# Altium schematic symbol library Schematics.SchLib: 88 symbols
Pins are listed as number, name and electrical type; pins without a type are passive.

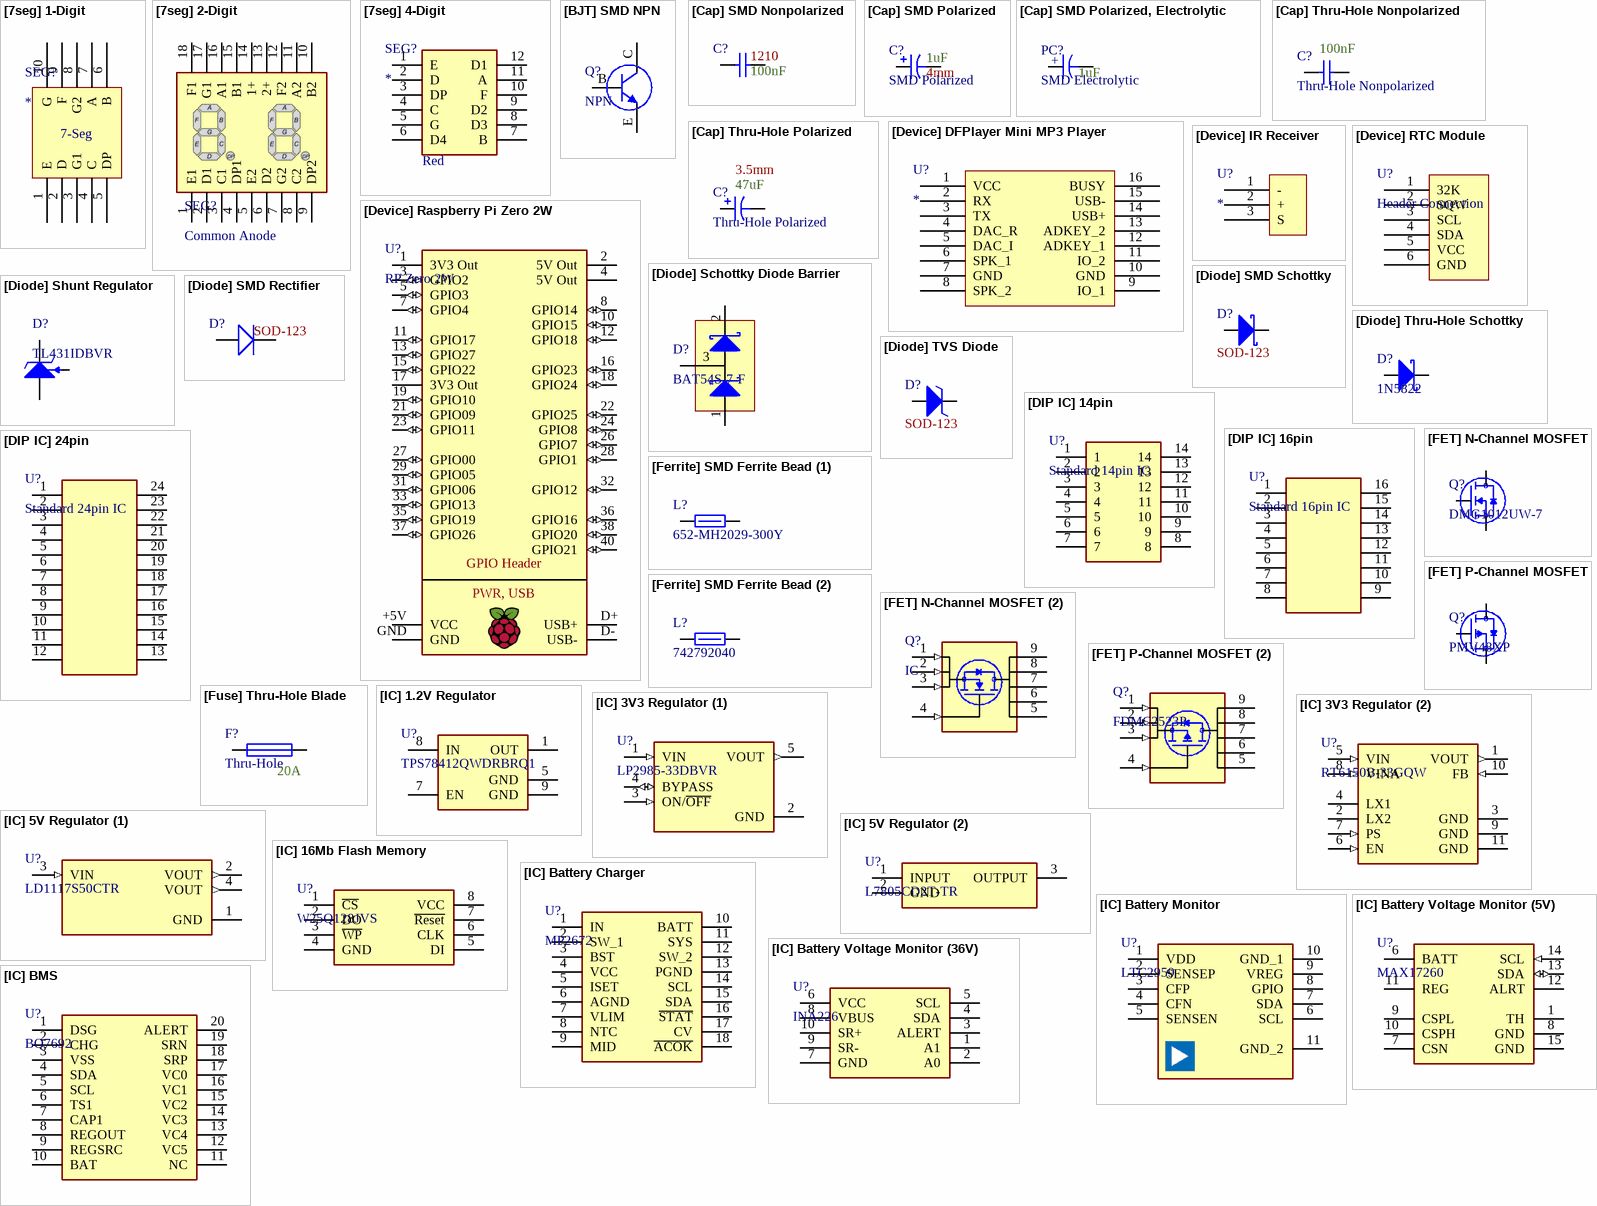
[diagram p0: symbols [7seg] 1-Digit to [IC] BMS]

## [7seg] 1-Digit
designator SEG?
footprint [7Seg] 1 Digit
pins: 1 E (power), 2 D (power), 3 G1 (power), 4 C (power), 5 DP (power), 6 B (power), 7 A (power), 8 G2 (power), 9 F (power), 10 G (power)
text: 7-Seg

## [7seg] 2-Digit
designator SEG?, comment Common Anode
Color: *; Mouser Part #: *
footprint [7seg] 2-Digit
pins: 1 E1, 2 D1, 3 C1, 4 DP1, 5 E2, 6 D2, 7 G2, 8 C2, 9 DP2, 10 B2, 11 A2, 12 F2, 13 2+, 14 1+, 15 B1, 16 A1, 17 G1, 18 F1

## [7seg] 4-Digit
designator SEG?  Color: Red
Mouser Part #: 474-COM-11405
footprint [7seg] 4-Digit
pins: 1 E (power), 2 D (power), 3 DP (power), 4 C (power), 5 G (power), 6 D4 (power), 7 B (power), 8 D3 (power), 9 D2 (power), 10 F (power), 11 A (power), 12 D1 (power)

## [BJT] SMD NPN
designator Q?, comment NPN
footprint [BJT] NPN SMD SOT-89-3
pins: B, C, E

## [Cap] SMD Nonpolarized
designator C?, comment Size Package: 1210  Capacitance: 100nF  (hidden comment: SMD Nonpolarized)
JLC Part #: *; Mouser Part #: *
footprint [Cap] SMD 0805
footprint [Cap] SMD 1206
footprint [Cap] SMD 1210
pins: 1, 2

## [Cap] SMD Polarized
designator C?, comment SMD Polarized  Capacitance: 1uF  Diameter: 4mm
JLC Part #: *; Mouser Part #: *
footprint [Cap] SMD Polarized, 4mm
footprint [Cap] SMD Polarized, 6.3mm
footprint [Cap] SMD Polarized, 10mm
pins: 1, 2

## [Cap] SMD Polarized, Electrolytic
designator PC?, comment SMD Electrolytic  Capacitance: 1uF
footprint [Cap] SMD Polarized, Electrolytic
pins: 1, 2
text: +

## [Cap] Thru-Hole Nonpolarized
designator C?, comment Thru-Hole Nonpolarized  Capacitance: 100nF
JLC Part #: *; Mouser Part #: *
footprint [Cap] Thru-Hole Nonpolarized
pins: 1, 2

## [Cap] Thru-Hole Polarized
designator C?, comment Thru-Hole Polarized  Pin Spacing: 3.5mm  Capacitance: 47uF
JLC Part #: *; Mouser Part #: *
footprint [Cap] Thru-Hole Polarized 3.5mm (3.5mm)
footprint [Cap] Thru-Hole Polarized 5mm (5mm)
pins: 1, 2

## [Device] DFPlayer Mini MP3 Player
designator U?
footprint [Device] DFPlayer Mini MP3 Player
pins: 1 VCC (power), 2 RX (power), 3 TX (power), 4 DAC_R (power), 5 DAC_I (power), 6 SPK_1 (power), 7 GND (power), 8 SPK_2 (power), 9 IO_1 (power), 10 GND (power), 11 IO_2 (power), 12 ADKEY_1 (power), 13 ADKEY_2 (power), 14 USB+ (power), 15 USB- (power), 16 BUSY (power)

## [Device] IR Receiver
designator U?
footprint [Device] IR Receiver
pins: 1 - (power), 2 + (power), 3 S (power)

## [Device] Raspberry Pi Zero 2W
designator U?, comment RP Zero 2W
footprint [Device] Raspberry Pi Zero 2W
pins: 1 3V3 Out (power), 2 5V Out (power), 3 GPIO2 (io), 4 5V Out (power), 5 GPIO3 (io), 7 GPIO4 (io), 8 GPIO14 (io), 10 GPIO15 (io), 11 GPIO17 (io), 12 GPIO18 (io), 13 GPIO27 (io), 15 GPIO22 (io), 16 GPIO23 (io), 17 3V3 Out (power), 18 GPIO24 (io), 19 GPIO10 (io), 21 GPIO09 (io), 22 GPIO25 (io), 23 GPIO11 (io), 24 GPIO8 (io), 26 GPIO7 (io), 27 GPIO00 (io), 28 GPIO1 (io), 29 GPIO05 (io), 31 GPIO06 (io), 32 GPIO12 (io), 33 GPIO13 (io), 35 GPIO19 (io), 36 GPIO16 (io), 37 GPIO26 (io), 38 GPIO20 (io), 40 GPIO21 (io), +5V VCC (power), D+ USB+ (power), D- USB- (power), GND (power)
text: GPIO Header; PWR, USB

## [Device] RTC Module
designator U?, comment Header Connection
footprint [Device] RTC Module Header Connection
pins: 1 32K (power), 2 SQW (power), 3 SCL (power), 4 SDA (power), 5 VCC (power), 6 GND (power)

## [Diode] Schottky Diode Barrier
designator D?, comment BAT54S-7-F
footprint [Diode] Schottky Diode Barrier
pins: 1, 2, 3 (power)

## [Diode] Shunt Regulator
designator D?, comment TL431IDBVR
footprint [Diode] Shunt Regulator (TL431IDBVR)
pins: 3 Cathode, 4 Vref, 5 Anode

## [Diode] SMD Rectifier
designator D?, comment Size Package: SOD-123  (hidden comment: Rectifier)
Generic; Mouser Part #: *
footprint [Diode] SMD 1206
footprint [Diode] SMD SOD-323-2
footprint [Diode] SMD SOD-123
footprint [Diode] SMD DO-214AC
footprint [Diode] SMD M7
footprint [Diode] SMD DO-214AA
footprint [Diode] SMD SOD-123W (SMD SOD-123W)
pins: 1 Cathode (power), 2 Anode (power)

## [Diode] SMD Schottky
designator D?, comment Size Package: SOD-123  (hidden comment: Schottky)
Generic
footprint [Diode] SMD 1206
footprint [Diode] SMD DO-214AA
footprint [Diode] SMD DO-214AC
footprint [Diode] SMD M7
footprint [Diode] SMD SOD-123
footprint [Diode] SMD SOD-123W (SMD SOD-123W)
footprint [Diode] SMD SOD-323-2
pins: 1 K (power), 2 A (power)

## [Diode] Thru-Hole Schottky
designator D?, comment 1N5822
Mouser Part #: 511-1N5822
footprint [Diode] Thru-Hole Schottky (1N5822)
pins: 1 K, 2 A

## [Diode] TVS Diode
designator D?, comment Size Package: SOD-123  (hidden comment: TVS/Zener)
Generic
footprint [Diode] SMD DO-214AA
footprint [Diode] SMD 1206
footprint [Diode] SMD DO-214AC
footprint [Diode] SMD M7
footprint [Diode] SMD SOD-123
footprint [Diode] SMD SOD-123W (SMD SOD-123W)
footprint [Diode] SMD SOD-323-2
pins: 1 Cathode, 2 Anode

## [DIP IC] 14pin
designator U?, comment Standard 14pin IC
Mouser Part #: *
footprint [DIP IC] 14pin, IC (Bare IC (no socket))
footprint [DIP IC] 14pin, Socket (IC Socket)
pins: 1, 2, 3, 4, 5, 6, 7, 8, 9, 10, 11, 12, 13, 14

## [DIP IC] 16pin
designator U?, comment Standard 16pin IC
Mouser Part #: *
footprint [DIP IC] 16pin, Socket (IC Socket)
footprint [DIP IC] 16pin, IC (Bare IC (no socket))
pins: 1, 2, 3, 4, 5, 6, 7, 8, 9, 10, 11, 12, 13, 14, 15, 16

## [DIP IC] 24pin
designator U?, comment Standard 24pin IC
Mouser Part #: *
footprint [DIP IC] 24pin, IC
footprint [DIP IC] 24pin, Socket
pins: 1 (power), 2 (power), 3 (power), 4 (power), 5 (power), 6 (power), 7 (power), 8 (power), 9 (power), 10 (power), 11 (power), 12 (power), 13 (power), 14 (power), 15 (power), 16 (power), 17 (power), 18 (power), 19 (power), 20 (power), 21 (power), 22 (power), 23 (power), 24 (power)

## [Ferrite] SMD Ferrite Bead (1)
designator L?, comment 652-MH2029-300Y
Res @ Freq: 30 @ 100MHz; Size Package: 0805
footprint [Ferrite] SMD Bead 0805 (1)
pins: 1, 2

## [Ferrite] SMD Ferrite Bead (2)
designator L?, comment 742792040
Mouser Part #: 710-742792040
footprint [Ferrite] SMD Bead 0805 (2) (742792040)
pins: 1, 2

## [FET] N-Channel MOSFET
designator Q?, comment DMG1012UW-7
footprint [FET] N-Channel Mosfet (DMG1012UW-7)
pins: 1 Gate, 2 Source, 3 Drain

## [FET] N-Channel MOSFET (2)
designator Q?, comment IC
Mouser Part #: 726-BSC057N08NS3G
footprint [FET] N-Channel MOSFET BSC057N08NS3 G (BSC057N08NS3 G)
footprint [FET] N-Channel MOSFET FDMS86250 (FDMS86250)
pins: 1 Source (in), 2 Source (in), 3 Source (in), 4 Gate (in), 5 Drain, 6 Drain, 7 Drain, 8 Drain, 9 Drain

## [FET] P-Channel MOSFET
designator Q?, comment PMV48XP
JLC Part #: C2959854
footprint [FET] P-Channel Mosfet (PMV48XP)
pins: 1 G, 2 S, 3 D

## [FET] P-Channel MOSFET (2)
designator Q?, comment FDMC2523P
footprint [FET] P-Channel MOSFET (2)
pins: 1 Source (in), 2 Source (in), 3 Source (in), 4 Gate (in), 5 Drain, 6 Drain, 7 Drain, 8 Drain, 9 Drain

## [Fuse] Thru-Hole Blade
designator F?, comment Thru-Hole  Capacity: 20A
Mouser Part #: *
footprint [Fuse] Blade (1)
footprint [Fuse] Blade (2)
pins: 1, 2

## [IC] 1.2V Regulator
designator U?, comment TPS78412QWDRBRQ1
footprint [IC] 1.2V Regulator
pins: 1 OUT, 5 GND, 7 EN, 8 IN, 9 GND

## [IC] 3V3 Regulator (1)
designator U?, comment LP2985-33DBVR
JLC Part #: C95414; Mouser Part #: 595-LP2985-33DBVR
footprint [IC] 3V3 Regulator (1) (Part #: LP2985-33DBVR)
pins: 1 VIN (in), 2 GND (power), 3 ON/~{OFF} (in), 4 BYPASS (io), 5 VOUT (out)

## [IC] 3V3 Regulator (2)
designator U?, comment RT6150B-33GQW
footprint [IC] 3V3 Regulator (2) (RT6150B-33GQW)
pins: 1 VOUT (out), 2 LX2 (power), 3 GND (power), 4 LX1 (power), 5 VIN (in), 6 EN (in), 7 PS (in), 8 VINA (in), 9 GND (power), 10 FB (in), 11 GND (power)

## [IC] 5V Regulator (1)
designator U?, comment LD1117S50CTR
JLC Part #: C81157
footprint [IC] 5V Regulator (1) (LD1117S50CTR)
pins: 1 GND (power), 2 VOUT (out), 3 VIN (in), 4 VOUT (out)

## [IC] 5V Regulator (2)
designator U?, comment L7805CD2T-TR
Mouser Part #: 511-L7805CD2T-TR
footprint [IC] 5V Regulator (2) (511-L7805CD2T-TR)
pins: 1 INPUT, 2 GND, 3 OUTPUT

## [IC] 16Mb Flash Memory
designator U?, comment W25Q128JVS
W25Q128JVSIQ TR
footprint [IC] 16Mb Flash Memory (W25Q128JVSIQ TR)
pins: 1 ~{CS}, 2 DO, 3 ~{WP}, 4 GND, 5 DI, 6 CLK, 7 ~{Reset}, 8 VCC

## [IC] Battery Charger
designator U?, comment MP2672
MP2672GD
footprint [IC] Battery Charger (MP2672GD)
pins: 1 IN, 2 SW_1, 3 BST, 4 VCC, 5 ISET, 6 AGND, 7 VLIM, 8 NTC, 9 MID, 10 BATT, 11 SYS, 12 SW_2, 13 PGND, 14 SCL, 15 SDA, 16 ~{STAT}, 17 CV, 18 ~{ACOK}

## [IC] Battery Monitor
designator U?, comment LTC2959
Mouser Part #: 584-LTC2959IDDBTRMPB
footprint [IC] Battery Monitor (LTC2959)
pins: 1 VDD, 2 SENSEP, 3 CFP, 4 CFN, 5 SENSEN, 6 SCL, 7 SDA, 8 GPIO, 9 VREG, 10 GND_1, 11 GND_2

## [IC] Battery Voltage Monitor (5V)
designator U?, comment MAX17260
MAX17260SETD+
footprint [IC] Battery Voltage Monitor (5V) (MAX17260SETD+)
pins: 1 TH, 6 BATT (power), 7 CSN, 8 GND, 9 CSPL, 10 CSPH, 11 REG (power), 12 ALRT, 13 SDA (io), 14 SCL (in), 15 GND

## [IC] Battery Voltage Monitor (36V)
designator U?, comment INA226
INA226AIDGST
footprint [IC] Battery Voltage Monitor (36V) (INA226AIDGST)
pins: 1 A1, 2 A0, 3 ALERT, 4 SDA, 5 SCL, 6 VCC, 7 GND, 8 VBUS, 9 SR-, 10 SR+

## [IC] BMS
designator U?, comment BQ7692
footprint [IC] BMS (BQ7692)
pins: 1 DSG, 2 CHG, 3 VSS, 4 SDA, 5 SCL, 6 TS1, 7 CAP1, 8 REGOUT, 9 REGSRC, 10 BAT, 11 NC, 12 VC5, 13 VC4, 14 VC3, 15 VC2, 16 VC1, 17 VC0, 18 SRP, 19 SRN, 20 ALERT

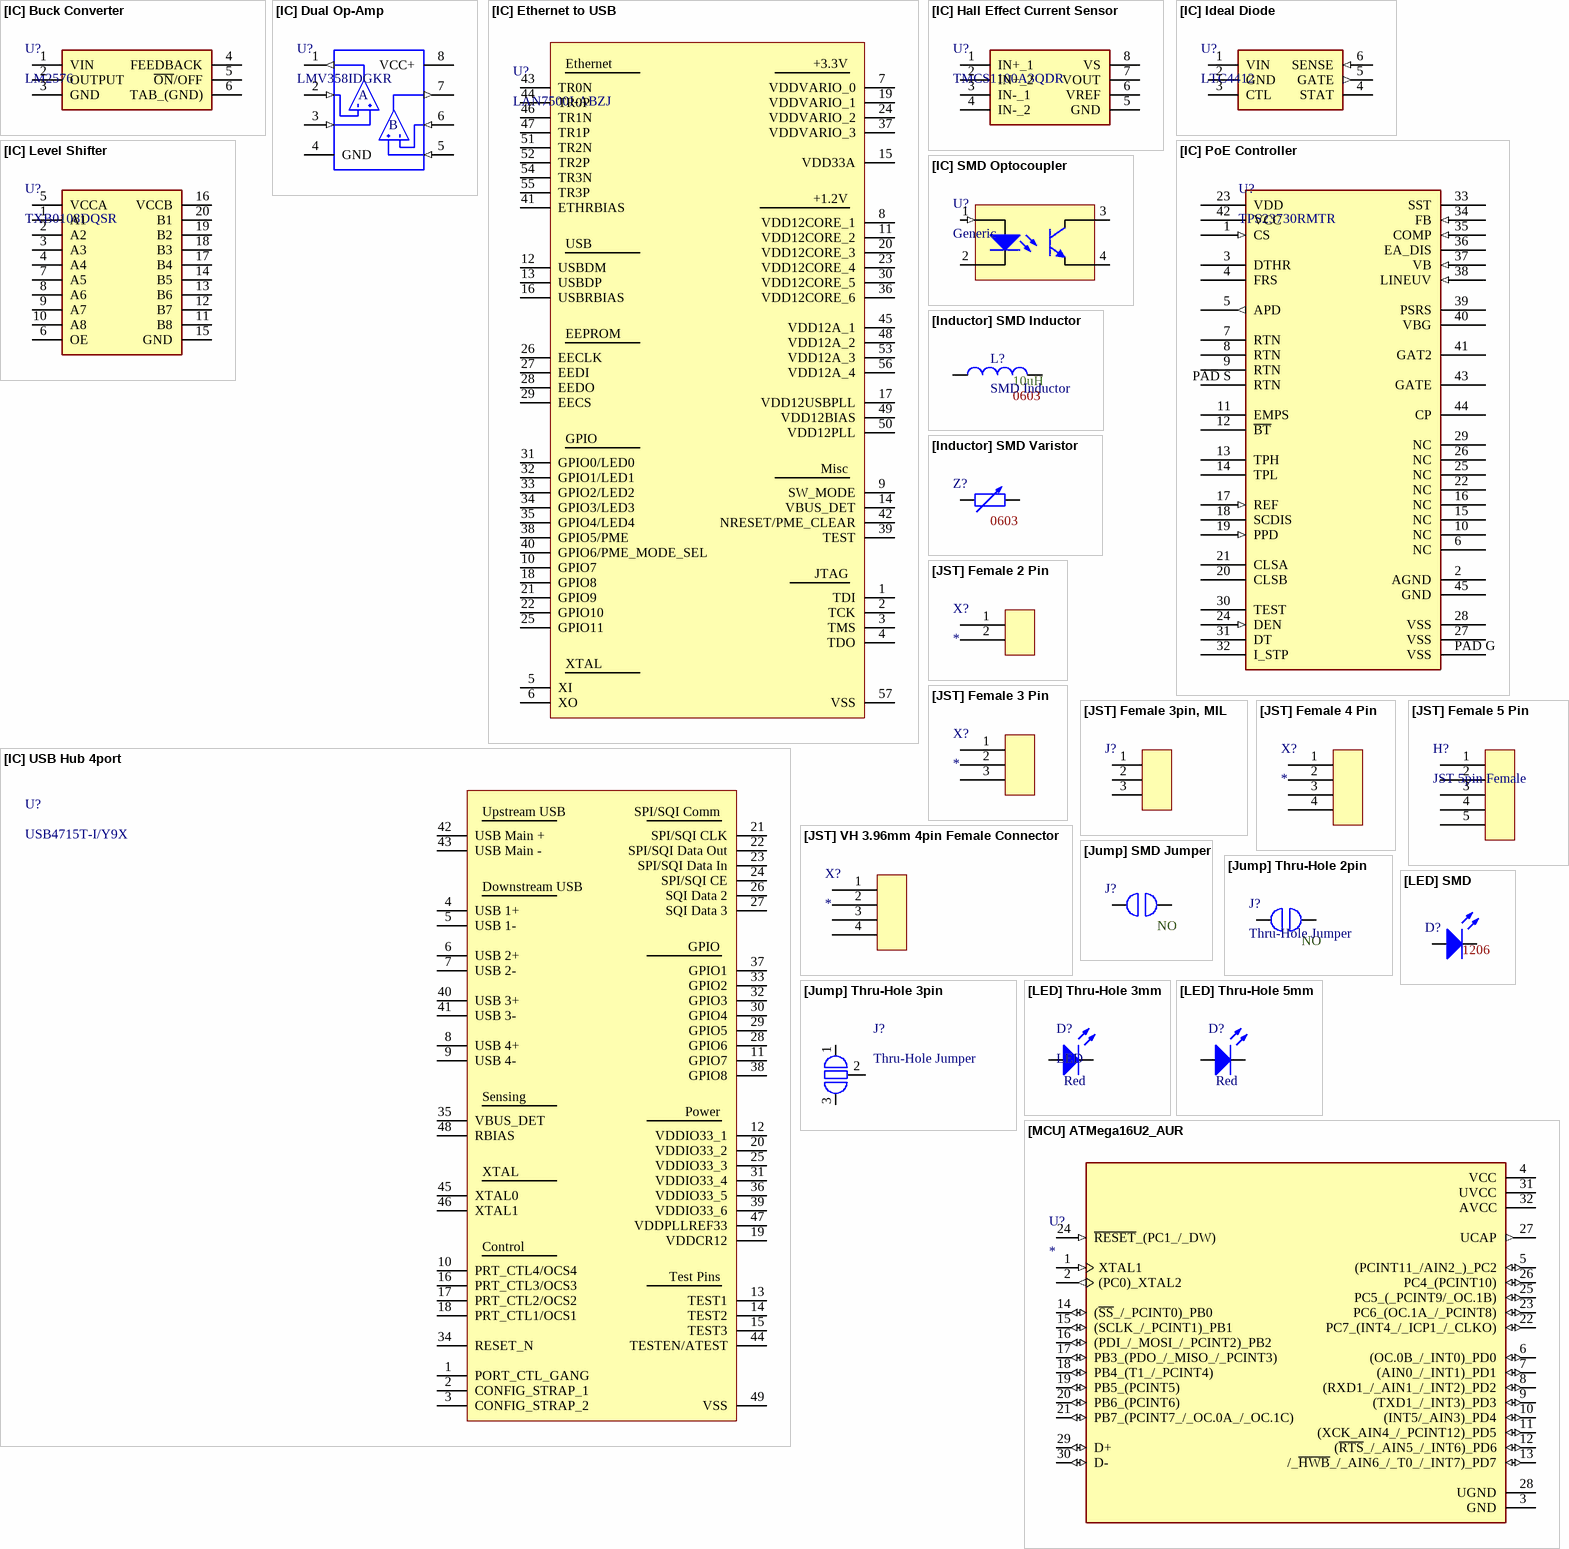
[diagram p1: symbols [IC] Buck Converter to [MCU] ATMega16U2_AUR]

## [IC] Buck Converter
designator U?, comment LM2576
footprint [IC] Buck Converter (LM2576)
pins: 1 VIN (power), 2 OUTPUT (power), 3 GND (power), 4 FEEDBACK (power), 5 ~{ON}/OFF (power), 6 TAB_(GND) (power)

## [IC] Dual Op-Amp
designator U?, comment LMV358IDGKR
JLC Part #: C105242
footprint [IC] Dual Op-Ap (LMV358IDGKR)
pins: 1 1OUT (out), 2 1IN- (in), 3 1IN+ (in), 4 GND (power), 5 2IN+ (in), 6 2IN- (in), 7 2OUT (out), 8 VCC+ (power)
text: A; B

## [IC] Ethernet to USB
designator U?, comment LAN7500I-ABZJ
footprint [IC] Ethernet to USB (LAN7500I-ABZJ)
pins: 1 TDI, 2 TCK, 3 TMS, 4 TDO, 5 XI, 6 XO, 7 VDDVARIO_0, 8 VDD12CORE_1, 9 SW_MODE, 10 GPIO7, 11 VDD12CORE_2, 12 USBDM, 13 USBDP, 14 VBUS_DET, 15 VDD33A, 16 USBRBIAS, 17 VDD12USBPLL, 18 GPIO8, 19 VDDVARIO_1, 20 VDD12CORE_3, 21 GPIO9, 22 GPIO10, 23 VDD12CORE_4, 24 VDDVARIO_2, 25 GPIO11, 26 EECLK, 27 EEDI, 28 EEDO, 29 EECS, 30 VDD12CORE_5, 31 GPIO0/LED0, 32 GPIO1/LED1, 33 GPIO2/LED2, 34 GPIO3/LED3, 35 GPIO4/LED4, 36 VDD12CORE_6, 37 VDDVARIO_3, 38 GPIO5/PME, 39 TEST, 40 GPIO6/PME_MODE_SEL, 41 ETHRBIAS, 42 NRESET/PME_CLEAR, 43 TR0N, 44 TR0P, 45 VDD12A_1, 46 TR1N, 47 TR1P, 48 VDD12A_2, 49 VDD12BIAS, 50 VDD12PLL, 51 TR2N, 52 TR2P, 53 VDD12A_3, 54 TR3N, 55 TR3P, 56 VDD12A_4, 57 VSS
text: Ethernet; +3.3V; +1.2V; USB; EEPROM; GPIO; Misc; JTAG; XTAL

## [IC] Hall Effect Current Sensor
designator U?, comment TMCS1100A3QDR
TMCS1100
footprint [IC] Hall Effect Current Sensor (TMCS1100)
pins: 1 IN+_1, 2 IN+_2, 3 IN-_1, 4 IN-_2, 5 GND, 6 VREF, 7 VOUT, 8 VS

## [IC] Ideal Diode
designator U?, comment LTC4412
footprint [IC] Ideal Diode (LTC4412)
pins: 1 VIN (power), 2 GND (power), 3 CTL, 4 STAT, 5 GATE (out), 6 SENSE (in)

## [IC] Level Shifter
designator U?, comment TXB0108DQSR
footprint [IC] Level Shifter (TXB0108DQSR)
pins: 1 A1, 2 A2, 3 A3, 4 A4, 5 VCCA, 6 OE, 7 A5, 8 A6, 9 A7, 10 A8, 11 B8, 12 B7, 13 B6, 14 B5, 15 GND, 16 VCCB, 17 B4, 18 B3, 19 B2, 20 B1

## [IC] PoE Controller
designator U?, comment TPS23730RMTR
Mouser Part #: 595-TPS23730RMTR
footprint [IC] PoE Controller (TPS23730RMTR)
pins: 1 CS (in), 2 AGND (power), 3 DTHR, 4 FRS, 5 APD (out), 6 NC, 7 RTN (power), 8 RTN (power), 9 RTN (power), 10 NC, 11 EMPS, 12 ~{BT}, 13 TPH, 14 TPL, 15 NC, 16 NC, 17 REF (in), 18 SCDIS, 19 PPD (in), 20 CLSB, 21 CLSA, 22 NC, 23 VDD (power), 24 DEN (in), 25 NC, 26 NC, 27 VSS (power), 28 VSS (power), 29 NC, 30 TEST, 31 DT (power), 32 I_STP (power), 33 SST, 34 FB (in), 35 COMP (in), 36 EA_DIS, 37 VB (in), 38 LINEUV (in), 39 PSRS (power), 40 VBG (power), 41 GAT2, 42 VCC (power), 43 GATE, 44 CP, 45 GND (power), PAD G VSS (power), PAD S RTN (power)

## [IC] SMD Optocoupler
designator U?, comment Generic
footprint [IC] Optocoupler (1) (SSOP-4)
footprint [IC] Optocoupler (2) (SOP254P1016X385-4N)
pins: 1 Anode (in), 2 Cathode (power), 3 Collector (power), 4 Emitter (power)

## [IC] USB Hub 4port
designator U?, comment USB4715T-I/Y9X
footprint [IC] USB Hub 4port (USB4715T-I/Y9X)
pins: 1 PORT_CTL_GANG, 2 CONFIG_STRAP_1, 3 CONFIG_STRAP_2, 4 USB 1+, 5 USB 1-, 6 USB 2+, 7 USB 2-, 8 USB 4+, 9 USB 4-, 10 PRT_CTL4/OCS4, 11 GPIO7, 12 VDDIO33_1, 13 TEST1, 14 TEST2, 15 TEST3, 16 PRT_CTL3/OCS3, 17 PRT_CTL2/OCS2, 18 PRT_CTL1/OCS1, 19 VDDCR12, 20 VDDIO33_2, 21 SPI/SQI CLK, 22 SPI/SQI Data Out, 23 SPI/SQI Data In, 24 SPI/SQI CE, 25 VDDIO33_3, 26 SQI Data 2, 27 SQI Data 3, 28 GPIO6, 29 GPIO5, 30 GPIO4, 31 VDDIO33_4, 32 GPIO3, 33 GPIO2, 34 RESET_N, 35 VBUS_DET, 36 VDDIO33_5, 37 GPIO1, 38 GPIO8, 39 VDDIO33_6, 40 USB 3+, 41 USB 3-, 42 USB Main +, 43 USB Main -, 44 TESTEN/ATEST, 45 XTAL0, 46 XTAL1, 47 VDDPLLREF33, 48 RBIAS, 49 VSS
text: Upstream USB; SPI/SQI Comm; Downstream USB; GPIO; Sensing; Power; XTAL; Control; Test Pins

## [Inductor] SMD Inductor
designator L?, comment SMD Inductor  Size Package: 0603  Inductance: 10uH
JLC Part #: *; Mouser Part #: *
footprint [Inductor] SMD 0603
footprint [Inductor] SMD 1812
footprint [Inductor] SMD 1210
footprint [Inductor] SMD 768775322 (768775322)
footprint [Inductor] SMD 74435571500
pins: 1, 2

## [Inductor] SMD Varistor
designator Z?  Size Package: 0603  (hidden comment: *)
JLC Part #: C840634
footprint [Inductor] SMD Varistor 0603 (CG0603MLC-05E)
pins: 1, 2

## [JST] Female 2 Pin
designator X?
footprint [JST] 2PIN
pins: 1, 2

## [JST] Female 3 Pin
designator X?
footprint [JST] 3PIN
pins: 1, 2, 3

## [JST] Female 3pin, MIL
designator J?, comment 1877285-3  (value not drawn)
MIL part
footprint [JST] 3PIN, MIL
pins: 1, 2, 3

## [JST] Female 4 Pin
designator X?
footprint [JST] 4PIN
pins: 1, 2, 3, 4

## [JST] Female 5 Pin
designator H?, comment JST 5pin Female
footprint [JST] 5PIN
pins: 1, 2, 3, 4, 5

## [JST] VH 3.96mm 4pin Female Connector
designator X?
footprint [JST] VH 3.96mm 4pin
pins: 1, 2, 3, 4

## [Jump] SMD Jumper
designator J?  NO/NC: NO  (hidden comment: *)
Solderable jumper
footprint [Jumper] Solderable Jumper
pins: 1, 2

## [Jump] Thru-Hole 2pin
designator J?, comment Thru-Hole Jumper  NO/NC: NO
Clip Jumper
footprint [Jumper] Thru-Hole 2pin
pins: 1, 2

## [Jump] Thru-Hole 3pin
designator J?, comment Thru-Hole Jumper
Clip Jumper; NO/NC: 2,3 NC
footprint [Jumper] Thru-Hole 3pin
pins: 1, 2 Common (power), 3

## [LED] SMD
designator D?, comment Size Package: 1206  (hidden comment: SMD LED)
Generic; Part #: *
footprint [LED] SMD 1206
pins: 1 Anode, 2 Cathode

## [LED] Thru-Hole 3mm
designator D?, comment LED  Color: Red
3mm LED
footprint [LED] Thru-Hole, 3mm, Blue
footprint [LED] Thru-Hole, 3mm, Green
footprint [LED] Thru-Hole, 3mm, Orange
footprint [LED] Thru-Hole, 3mm, Red
footprint [LED] Thru-Hole, 3mm, Violet
footprint [LED] Thru-Hole, 3mm, White
footprint [LED] Thru-Hole, 3mm, Yellow
pins: 1 A, 2 K

## [LED] Thru-Hole 5mm
designator D?, comment Color: Red  (hidden comment: LED)
5mm LED
footprint [LED] Thru-Hole 5mm
pins: 1 A, 2 K

## [MCU] ATMega16U2_AUR
designator U?
JLC Part #: C507117
footprint [MCU] ATMega16U2_AUR
pins: 1 XTAL1 (in), 2 (PC0)_XTAL2 (out), 3 GND (power), 4 VCC (power), 5 (PCINT11_/AIN2_)_PC2 (io), 6 (OC.0B_/_INT0)_PD0 (io), 7 (AIN0_/_INT1)_PD1 (io), 8 (RXD1_/_AIN1_/_INT2)_PD2 (io), 9 (TXD1_/_INT3)_PD3 (io), 10 (INT5/_AIN3)_PD4 (io), 11 (XCK_AIN4_/_PCINT12)_PD5 (io), 12 (~{RTS}_/_AIN5_/_INT6)_PD6 (io), 13 /_~{HWB}_/_AIN6_/_T0_/_INT7)_PD7 (io), 14 (~{SS}_/_PCINT0)_PB0 (io), 15 (SCLK_/_PCINT1)_PB1 (io), 16 (PDI_/_MOSI_/_PCINT2)_PB2 (io), 17 PB3_(PDO_/_MISO_/_PCINT3) (io), 18 PB4_(T1_/_PCINT4) (io), 19 PB5_(PCINT5) (io), 20 PB6_(PCINT6) (io), 21 PB7_(PCINT7_/_OC.0A_/_OC.1C) (io), 22 PC7_(INT4_/_ICP1_/_CLKO) (io), 23 PC6_(OC.1A_/_PCINT8) (io), 24 ~{RESET}_(PC1_/_DW) (in), 25 PC5_(_PCINT9/_OC.1B) (io), 26 PC4_(PCINT10) (io), 27 UCAP (out), 28 UGND (power), 29 D+ (io), 30 D- (io), 31 UVCC (power), 32 AVCC (power)

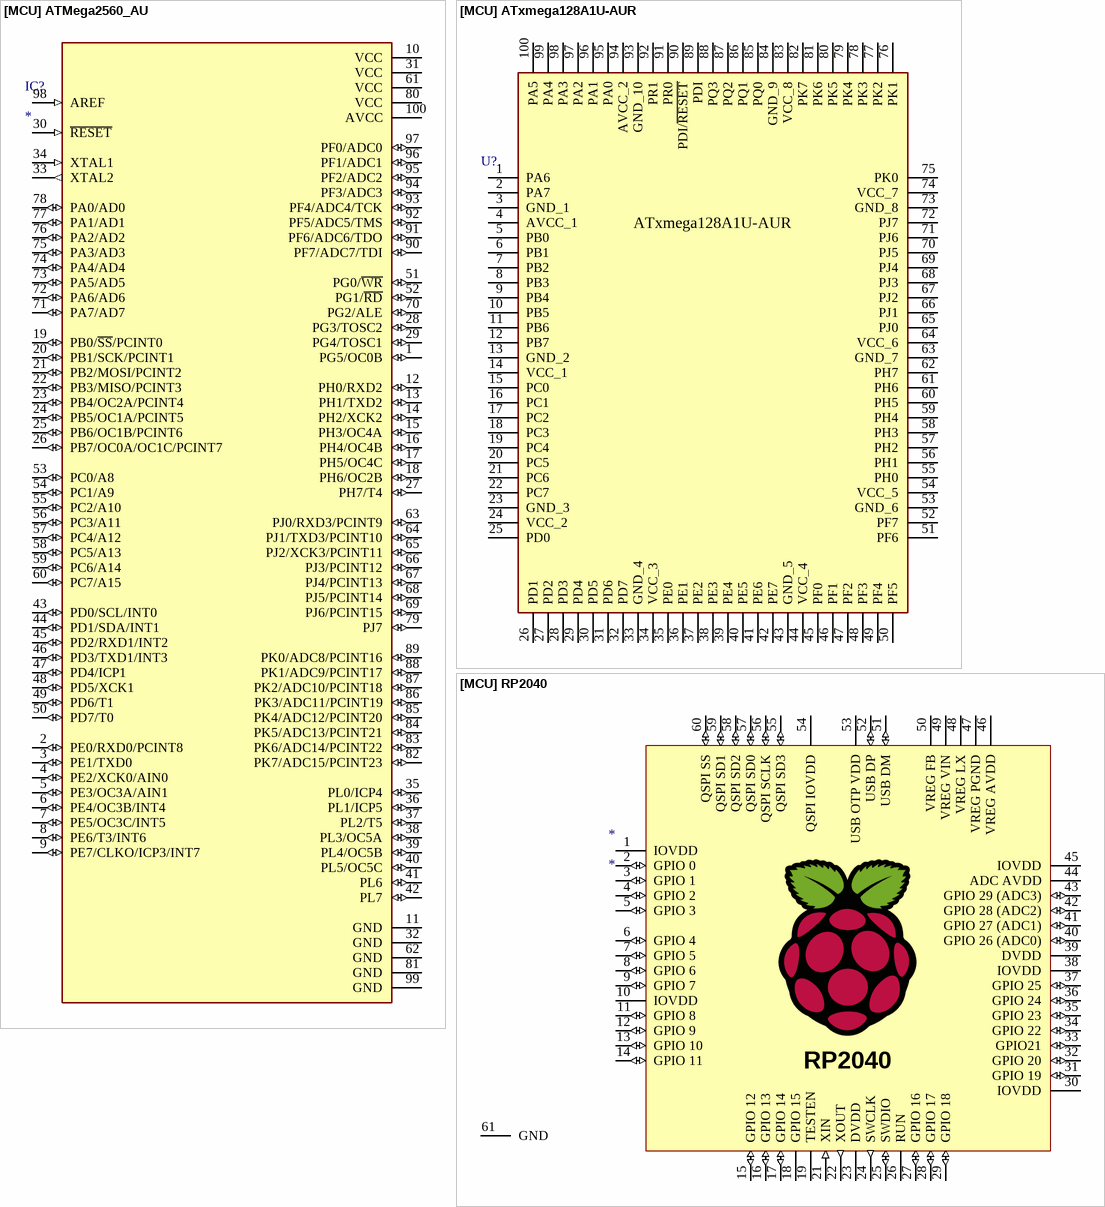
[diagram p2: symbols [MCU] ATMega2560_AU to [MCU] RP2040]

## [MCU] ATMega2560_AU
designator IC?
JLC Part #: C22460
footprint [MCU] ATMega2560_AU
pins: 1 PG5/OC0B (io), 2 PE0/RXD0/PCINT8 (io), 3 PE1/TXD0 (io), 4 PE2/XCK0/AIN0 (io), 5 PE3/OC3A/AIN1 (io), 6 PE4/OC3B/INT4 (io), 7 PE5/OC3C/INT5 (io), 8 PE6/T3/INT6 (io), 9 PE7/CLKO/ICP3/INT7 (io), 10 VCC (power), 11 GND (power), 12 PH0/RXD2 (io), 13 PH1/TXD2 (io), 14 PH2/XCK2 (io), 15 PH3/OC4A (io), 16 PH4/OC4B (io), 17 PH5/OC4C (io), 18 PH6/OC2B (io), 19 PB0/~{SS}/PCINT0 (io), 20 PB1/SCK/PCINT1 (io), 21 PB2/MOSI/PCINT2 (io), 22 PB3/MISO/PCINT3 (io), 23 PB4/OC2A/PCINT4 (io), 24 PB5/OC1A/PCINT5 (io), 25 PB6/OC1B/PCINT6 (io), 26 PB7/OC0A/OC1C/PCINT7 (io), 27 PH7/T4 (io), 28 PG3/TOSC2 (io), 29 PG4/TOSC1 (io), 30 ~{RESET} (in), 31 VCC (power), 32 GND (power), 33 XTAL2 (out), 34 XTAL1 (in), 35 PL0/ICP4 (io), 36 PL1/ICP5 (io), 37 PL2/T5 (io), 38 PL3/OC5A (io), 39 PL4/OC5B (io), 40 PL5/OC5C (io), 41 PL6 (io), 42 PL7 (io), 43 PD0/SCL/INT0 (io), 44 PD1/SDA/INT1 (io), 45 PD2/RXD1/INT2 (io), 46 PD3/TXD1/INT3 (io), 47 PD4/ICP1 (io), 48 PD5/XCK1 (io), 49 PD6/T1 (io), 50 PD7/T0 (io), 51 PG0/~{WR} (io), 52 PG1/~{RD} (io), 53 PC0/A8 (io), 54 PC1/A9 (io), 55 PC2/A10 (io), 56 PC3/A11 (io), 57 PC4/A12 (io), 58 PC5/A13 (io), 59 PC6/A14 (io), 60 PC7/A15 (io), 61 VCC (power), 62 GND (power), 63 PJ0/RXD3/PCINT9 (io), 64 PJ1/TXD3/PCINT10 (io), 65 PJ2/XCK3/PCINT11 (io), 66 PJ3/PCINT12 (io), 67 PJ4/PCINT13 (io), 68 PJ5/PCINT14 (io), 69 PJ6/PCINT15 (io), 70 PG2/ALE (io), 71 PA7/AD7 (io), 72 PA6/AD6 (io), 73 PA5/AD5 (io), 74 PA4/AD4 (io), 75 PA3/AD3 (io), 76 PA2/AD2 (io), 77 PA1/AD1 (io), 78 PA0/AD0 (io), 79 PJ7 (io), 80 VCC (power), 81 GND (power), 82 PK7/ADC15/PCINT23 (io), 83 PK6/ADC14/PCINT22 (io), 84 PK5/ADC13/PCINT21 (io), 85 PK4/ADC12/PCINT20 (io), 86 PK3/ADC11/PCINT19 (io), 87 PK2/ADC10/PCINT18 (io), 88 PK1/ADC9/PCINT17 (io), 89 PK0/ADC8/PCINT16 (io), 90 PF7/ADC7/TDI (io), 91 PF6/ADC6/TDO (io), 92 PF5/ADC5/TMS (io), 93 PF4/ADC4/TCK (io), 94 PF3/ADC3 (io), 95 PF2/ADC2 (io), 96 PF1/ADC1 (io), 97 PF0/ADC0 (io), 98 AREF (in), 99 GND (power), 100 AVCC (power)

## [MCU] ATxmega128A1U-AUR
designator U?
Mouser Part #: 556-ATXMEGA128A1UAUR; JLC Part #: C2053610; Package: TQFP-100(14x14)
footprint [MCU] Atxmega128A1U-AUR
pins: 1 PA6, 2 PA7, 3 GND_1, 4 AVCC_1, 5 PB0, 6 PB1, 7 PB2, 8 PB3, 9 PB4, 10 PB5, 11 PB6, 12 PB7, 13 GND_2, 14 VCC_1, 15 PC0, 16 PC1, 17 PC2, 18 PC3, 19 PC4, 20 PC5, 21 PC6, 22 PC7, 23 GND_3, 24 VCC_2, 25 PD0, 26 PD1, 27 PD2, 28 PD3, 29 PD4, 30 PD5, 31 PD6, 32 PD7, 33 GND_4, 34 VCC_3, 35 PE0, 36 PE1, 37 PE2, 38 PE3, 39 PE4, 40 PE5, 41 PE6, 42 PE7, 43 GND_5, 44 VCC_4, 45 PF0, 46 PF1, 47 PF2, 48 PF3, 49 PF4, 50 PF5, 51 PF6, 52 PF7, 53 GND_6, 54 VCC_5, 55 PH0, 56 PH1, 57 PH2, 58 PH3, 59 PH4, 60 PH5, 61 PH6, 62 PH7, 63 GND_7, 64 VCC_6, 65 PJ0, 66 PJ1, 67 PJ2, 68 PJ3, 69 PJ4, 70 PJ5, 71 PJ6, 72 PJ7, 73 GND_8, 74 VCC_7, 75 PK0, 76 PK1, 77 PK2, 78 PK3, 79 PK4, 80 PK5, 81 PK6, 82 PK7, 83 VCC_8, 84 GND_9, 85 PQ0, 86 PQ1, 87 PQ2, 88 PQ3, 89 PDI, 90 PDI/~{RESET}, 91 PR0, 92 PR1, 93 GND_10, 94 AVCC_2, 95 PA0, 96 PA1, 97 PA2, 98 PA3, 99 PA4, 100 PA5
text: ATxmega128A1U-AUR

## [MCU] RP2040
designator *
pins: 1 IOVDD (power), 2 GPIO 0 (io), 3 GPIO 1 (io), 4 GPIO 2 (io), 5 GPIO 3 (io), 6 GPIO 4 (io), 7 GPIO 5 (io), 8 GPIO 6 (io), 9 GPIO 7 (io), 10 IOVDD (power), 11 GPIO 8 (io), 12 GPIO 9 (io), 13 GPIO 10 (io), 14 GPIO 11 (io), 15 GPIO 12 (io), 16 GPIO 13 (io), 17 GPIO 14 (io), 18 GPIO 15 (power), 19 TESTEN (power), 21 XIN (in), 22 XOUT (out), 23 DVDD (power), 24 SWCLK (out), 25 SWDIO (io), 26 RUN, 27 GPIO 16 (io), 28 GPIO 17 (io), 29 GPIO 18 (io), 30 IOVDD (power), 31 GPIO 19 (io), 32 GPIO 20 (io), 33 GPIO21 (io), 34 GPIO 22 (io), 35 GPIO 23 (io), 36 GPIO 24 (io), 37 GPIO 25 (io), 38 IOVDD (power), 39 DVDD (power), 40 GPIO 26 (ADC0) (io), 41 GPIO 27 (ADC1) (io), 42 GPIO 28 (ADC2) (io), 43 GPIO 29 (ADC3) (io), 44 ADC AVDD (power), 45 IOVDD (power), 46 VREG AVDD (power), 47 VREG PGND (power), 48 VREG LX (power), 49 VREG VIN (power), 50 VREG FB (power), 51 USB DM (io), 52 USB DP (io), 53 USB OTP VDD (power), 54 QSPI IOVDD (power), 55 QSPI SD3 (io), 56 QSPI SCLK (io), 57 QSPI SD0 (io), 58 QSPI SD2 (io), 59 QSPI SD1 (io), 60 QSPI SS (io), 61 GND (power)
text: RP2040

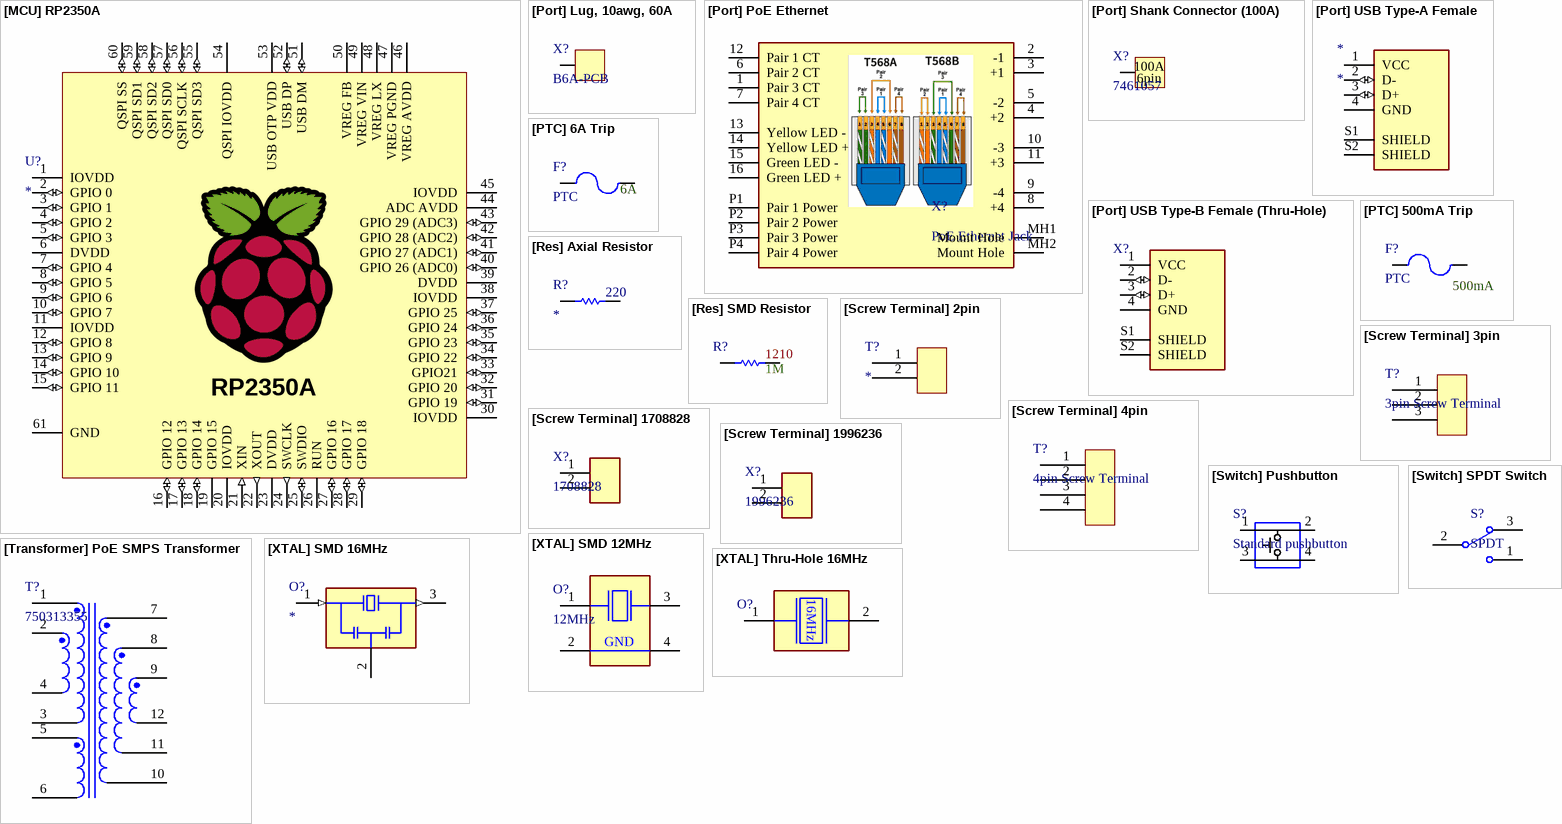
[diagram p3: symbols [MCU] RP2350A to [XTAL] Thru-Hole 16MHz]

## [MCU] RP2350A
designator U?
footprint [MCU] RP2350A
pins: 1 IOVDD (power), 2 GPIO 0 (io), 3 GPIO 1 (io), 4 GPIO 2 (io), 5 GPIO 3 (io), 6 DVDD (power), 7 GPIO 4 (io), 8 GPIO 5 (io), 9 GPIO 6 (io), 10 GPIO 7 (io), 11 IOVDD (power), 12 GPIO 8 (io), 13 GPIO 9 (io), 14 GPIO 10 (io), 15 GPIO 11 (io), 16 GPIO 12 (io), 17 GPIO 13 (io), 18 GPIO 14 (io), 19 GPIO 15 (power), 20 IOVDD (power), 21 XIN (in), 22 XOUT (out), 23 DVDD (power), 24 SWCLK (out), 25 SWDIO (io), 26 RUN, 27 GPIO 16 (io), 28 GPIO 17 (io), 29 GPIO 18 (io), 30 IOVDD (power), 31 GPIO 19 (io), 32 GPIO 20 (io), 33 GPIO21 (io), 34 GPIO 22 (io), 35 GPIO 23 (io), 36 GPIO 24 (io), 37 GPIO 25 (io), 38 IOVDD (power), 39 DVDD (power), 40 GPIO 26 (ADC0) (io), 41 GPIO 27 (ADC1) (io), 42 GPIO 28 (ADC2) (io), 43 GPIO 29 (ADC3) (io), 44 ADC AVDD (power), 45 IOVDD (power), 46 VREG AVDD (power), 47 VREG PGND (power), 48 VREG LX (power), 49 VREG VIN (power), 50 VREG FB (power), 51 USB DM (io), 52 USB DP (io), 53 USB OTP VDD (power), 54 QSPI IOVDD (power), 55 QSPI SD3 (io), 56 QSPI SCLK (io), 57 QSPI SD0 (io), 58 QSPI SD2 (io), 59 QSPI SD1 (io), 60 QSPI SS (io), 61 GND (power)
text: RP2350A

## [Port] Lug, 10awg, 60A
designator X?, comment B6A-PCB
https://lugsdirect.com/B6A-PCB.htm
footprint [Port] Lug, 10awg, 60A
pins: 1 4 (power)

## [Port] PoE Ethernet
designator X?, comment PoE Ethernet Jack
85789-1006; Mouser Part #: 538-85789-1006
footprint [Port] PoE Ethernet (85789-1006)
pins: 1 Pair 3 CT, 2 -1, 3 +1, 4 +2, 5 -2, 6 Pair 2 CT, 7 Pair 4 CT, 8 +4, 9 -4, 10 -3, 11 +3, 12 Pair 1 CT, 13 Yellow LED -, 14 Yellow LED +, 15 Green LED -, 16 Green LED +, MH1 Mount Hole, MH2 Mount Hole, P1 Pair 1 Power, P2 Pair 2 Power, P3 Pair 3 Power, P4 Pair 4 Power

## [Port] Shank Connector (100A)
designator X?, comment 7461057
7461057, internal thread
footprint [Port] Shank Connector (100A) (7461057, internal thread)
pins: 1 4 (power)
text: 100A; 6pin

## [Port] USB Type-A Female
designator *
footprint [Port] USB Type-A Female
pins: 1 VCC (power), 2 D- (io), 3 D+ (io), 4 GND (power), S1 SHIELD, S2 SHIELD

## [Port] USB Type-B Female (Thru-Hole)
designator X?  (value not drawn)
USB-B-S-F-B-TH; JLC Part #: C5714571
footprint [Port] USB Type-B Thru-Hole (USB-B-S-F-B-TH)
pins: 1 VCC (power), 2 D- (io), 3 D+ (io), 4 GND (power), S1 SHIELD, S2 SHIELD

## [PTC] 6A Trip
designator F?, comment PTC  Trip Current: 6A
652-MF-USML300/6-2
footprint [PTC] 6A Trip
pins: 1, 2

## [PTC] 500mA Trip
designator F?, comment PTC  Trip Current: 500mA
MF-MSMF050-2 / JLC Part #: C17313; JLC Part #: C17313; Size Package: 1812
footprint [PTC] 500mA Trip (Part #: MF-MSMF050-2)
pins: 1, 2

## [Res] Axial Resistor
designator R?  Resistance: 220
footprint [Res] Axial
pins: 1, 2

## [Res] SMD Resistor
designator R?  Resistance: 1M  Size Package: 1210  (hidden comment: *)
footprint [Res] SMD 1210
footprint [Res] SMD 2010
footprint [Res] SMD 0805
footprint [Res] SMD 1206
footprint [Res] SMD 4527
footprint [Res] SMD 3921
pins: 1, 2

## [Screw Terminal] 2pin
designator T?
footprint [Screw Terminal] 2pin
pins: 1 (power), 2 (power)

## [Screw Terminal] 3pin
designator T?, comment 3pin Screw Terminal
footprint [Screw Terminal] 3pin
pins: 1 (power), 2 (power), 3 (power)

## [Screw Terminal] 4pin
designator T?, comment 4pin Screw Terminal
footprint [Screw Terminal] 4pin
pins: 1 (power), 2 (power), 3 (power), 4 (power)

## [Screw Terminal] 1708828
designator X?, comment 1708828
Mouser Part #: 651-1708828
footprint [Screw Terminal] 1708828 (1708828)
pins: 1, 2

## [Screw Terminal] 1996236
designator X?, comment 1996236
Mouser Part #: 651-1996236
footprint [Screw Terminal] 1996236 (1996236)
pins: 1, 2

## [Switch] Pushbutton
designator S?, comment Standard pushbutton
footprint [Switch] Pushbutton ((Regular pushbutton))
pins: 1 (power), 2 (power), 3 (power), 4 (power)

## [Switch] SPDT Switch
designator S?, comment SPDT
footprint [Switch] SPDT
pins: 1, 2, 3

## [Transformer] PoE SMPS Transformer
designator T?, comment 750313355
footprint [Transformer] PoE SMPS Transformer (750313355)
pins: 1, 2, 3, 4, 5, 6, 7, 8, 9, 10, 11, 12

## [XTAL] SMD 12MHz
designator O?, comment 12MHz
815-ABM8-272-T3
footprint [XTAL] SMD 12MHz
pins: 1 XTAL1 (power), 2 GND (power), 3 XTAL2 (power), 4 GND (power)

## [XTAL] SMD 16MHz
designator O?
CSTNE16M0V530000R0; JLC Part #: C341521
footprint [XTAL] SMD 16MHz (CSTCE16M0V53-R0)
pins: 1 IN (in), 2 GND (power), 3 OUT (out)

## [XTAL] Thru-Hole 16MHz
designator O?  (value not drawn)
2780-HC49US-FF3F18-16.000MHZ-ND (16MHz); JLC Part #: C6873445
footprint [XTAL] Thru-Hole 16MHz (Part #: 2780-HC49US-FF3F18-16.000MHZ-ND)
pins: 1, 2
text: 16MHz